# Altium footprint library Lora-IO-Device.PcbLib: 24 footprints (part 2 of 2)
Each footprint in its own frame and in the unit in brackets; x right, y up, seen from the top. Pads: shape width x height; smd on the part's side, far side on the other; paste and mask are expansions set on the pad; w line width, h text height; cw(c..) or ccw(c..) is an arc to the next point about the centre after c.
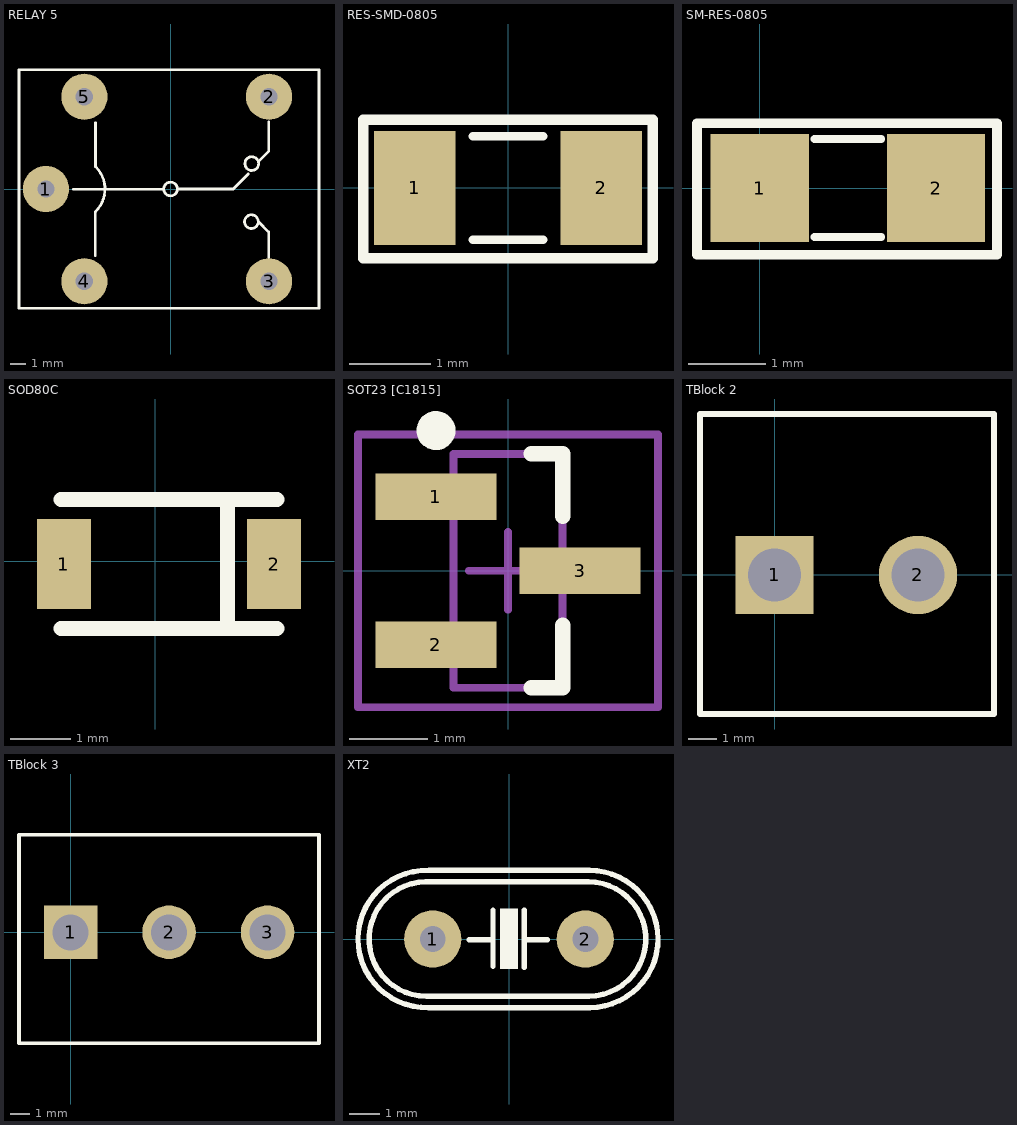
[diagram p1: the footprints below, top view; thin cyan lines are the x and y axes]

## RELAY 5 [mil]
pads (5):
  round 120 hole 45: 1(-325,0) 2(255,240) 3(255,-240) 4(-225,-240) 5(-225,240)
Top Overlay:
  circle w7: c209.2,-85 r17.8
  circle w7: c210.2,66 r17.8
  circle w7: c-0.8,0 r17.8
  lines w7: -254,-1 -21,-1 ; -197,-173 -197,-60 ; -196,-59 ccw(c-253.5,-0.5) -195,57 ; -196,58 -196,172 ; 19,0 162,0 201,39 ; 227,-85 254,-112 254,-178 ; 228,72 254,98 254,174 ; -395,-310 -395,310 385,310 385,-310 -395,-310
3D body "User Library-SONGLE Relay SRU-12VDC-SL-C.step": height 602.36, standoff -196.85, extent -370.98,-304.24 380.98,306

## RES-SMD-0805 [mil]
pads (2):
  rect 39.37x55 smd: 1(-45,0) 2(45,0)
Top Overlay:
  lines w4: -17,-25 17,-25 ; -17,25 17,25
  lines w5: -70,-34 70,-34 70,33 -70,33 -70,-34
3D body "SW3dPS-0805 SMD Resistor.STEP": height 31.39, standoff 0.6, extent -39.36,-24.6 39.38,24.61

## SM-RES-0805 [mil]
pads (2):
  rect 50x55 smd: 1(0,0) 2(90,0)
Top Overlay:
  lines w4: 28,-25 62,-25 ; 28,25 62,25
  lines w5: -32,-34 -32,33 121,33 121,-34 -32,-34
3D body "SW3dPS-0805 SMD Resistor.STEP": height 31.39, standoff 0.6, extent 5.64,-24.6 84.38,24.61

## SOD80C [mm]
pads (2):
  rect 0.9x1.5 smd: 1(-1.524,-0.047) 2(1.976,-0.047)
Top Overlay:
  lines w0.254: -1.574,-1.122 2.026,-1.122 ; -1.574,1.028 2.026,1.028 ; 1.201,-1.122 1.201,1.028
3D body "User Library-MiniMelf-2.STEP": height 1.6, standoff 0, extent -1.566,-0.8 2.134,0.8

## SOT23 [C1815] [mm]
pads (3):
  rect 1.55x0.6 smd: 1(-0.925,0.95) 2(-0.925,-0.95) 3(0.925,0)
Top Overlay:
  circle w0.25: c-0.925,1.8 r0.125
  lines w0.2: 0.3,-1.5 0.7,-1.5 0.7,-0.7 ; 0.3,1.5 0.7,1.5 0.7,0.7
Mechanical 13:
  lines w0.1: -0.7,-1.5 0.7,-1.5 0.7,1.5 -0.7,1.5 -0.7,-1.5
Mechanical 15:
  lines w0.1: -0.5,0 0.5,0 ; 0,-0.5 0,0.5 ; -1.925,-1.75 1.925,-1.75 1.925,1.75 -1.925,1.75 -1.925,-1.75
3D body: height 1, standoff 0.01, extent -1.525,0.725 -0.5,1.2
3D body: height 1, standoff 0.01, extent -1.525,-1.175 -0.5,-0.7
3D body: height 1, standoff 0.01, extent 0.5,-0.25 1.525,0.225
3D body: height 1.1, standoff 0.05, extent -0.7,-1.5 0.7,1.5

## TBlock 2 [mil]
pads (2):
  rect 107x107 hole 72: 1(0,0)
  round 107 hole 72: 2(196,0)
Top Overlay:
  lines w7.87: -102,-190 -102,220 300,220 300,-190 -102,-190
3D body "terminal_blocks_a-tb500-ti02.stp": height 560.07, standoff -136.8, extent -121.66,-189 295.67,216.52

## TBlock 3 [mil]
pads (3):
  rect 107x107 hole 72: 1(0,0)
  round 107 hole 72: 2(197,0) 3(394,0)
Top Overlay:
  lines w7.87: -103,-222 497,-222 497,195 -103,195 -103,-222
3D body "terminal_blocks_a-tb500-ti03.stp": height 120.8, standoff -576.07, extent -98.28,-216 515.9,189.52

## XT2 [mil]
pads (2):
  round 75 hole 34: 1(-100,0) 2(100,0)
Top Overlay:
  region: 11.5,40 11.5,-39 -11.5,-39 -11.5,40
  lines w7: -109,75 ccw(c-108.5,0) -108.27,-75 ; -106.97,-75 103.03,-75 ; -105.97,75 104.03,75 ; -105.02,-90 105.91,-90 ccw(c105.31,0) 105.03,90 -104.97,90.01 ccw(c-108,0.06) -105.02,-89.89 ; -52,-1 -21,-1 ; -21,-36 -21,38 ; 20,-37 20,38 ; 20,-1 50,-1 ; 104,75 cw(c104.23,0) 104.73,-75
3D body "SW3dPS-HP49US.STEP": height 137.8, standoff -157.48, extent -233.43,-93.07 213.43,90